# Altium footprint library F 蜂鸣器.PcbLib: 1 footprints
Each footprint in its own frame and in the unit in brackets; x right, y up, seen from the top. Pads: shape width x height; smd on the part's side, far side on the other; paste and mask are expansions set on the pad; w line width, h text height; cw(c..) or ccw(c..) is an arc to the next point about the centre after c.
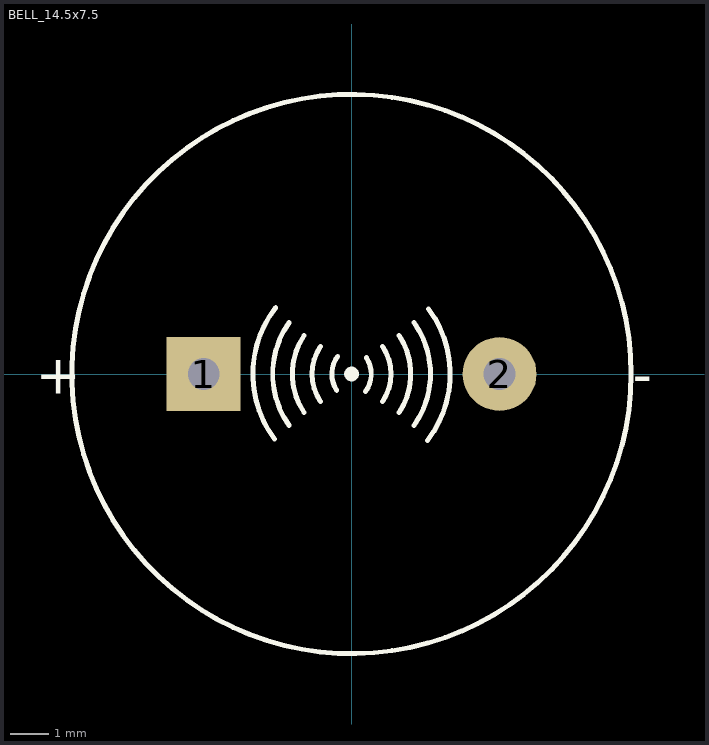
[diagram p0: the footprint, top view; thin cyan lines are the x and y axes]

## BELL_14.5x7.5 [mil] "蜂鸣器"
height 295.28
pads (2):
  rect 75x75 hole 32.01: 1(-150,0)
  round 75 hole 32: 2(150,0)
Top Overlay:
  circle w5: c0,0 r5
  circle w5: c0,0 r283.46
  lines w5: -78,-66 cw(c10,0) -76.83,67.53 ; -63.24,-52.31 cw(c10,0) -63.24,52.31 ; -48.24,-38.83 cw(c10,0) -48.24,38.83 ; -31.6,-27.74 cw(c10,0) -31.6,27.74 ; -14.96,-16.64 cw(c10,0) -14,18 ; -5,0 5,0 ; 0,-5 0,5 ; 14,-18 ccw(c-10,0) 14.96,16.64 ; 31.6,-27.74 ccw(c-10,0) 31.6,27.74 ; 48.24,-38.83 ccw(c-10,0) 48.24,38.83 ; 63.24,-52.31 ccw(c-10,0) 63.24,52.31 ; 76.83,-67.53 ccw(c-10,0) 78,66
  text "+" at -320,-20 h40
  text "-" at 285,-20 h40
Bottom Overlay:
  text "-" at 105,-15 h40
  text "+" at -70,-15 h40